# Altium footprint library SMA-TH_HL-SMA-KHD4.PcbLib: 1 footprints
Each footprint in its own frame and in the unit in brackets; x right, y up, seen from the top. Pads: shape width x height; smd on the part's side, far side on the other; paste and mask are expansions set on the pad; w line width, h text height; cw(c..) or ccw(c..) is an arc to the next point about the centre after c.
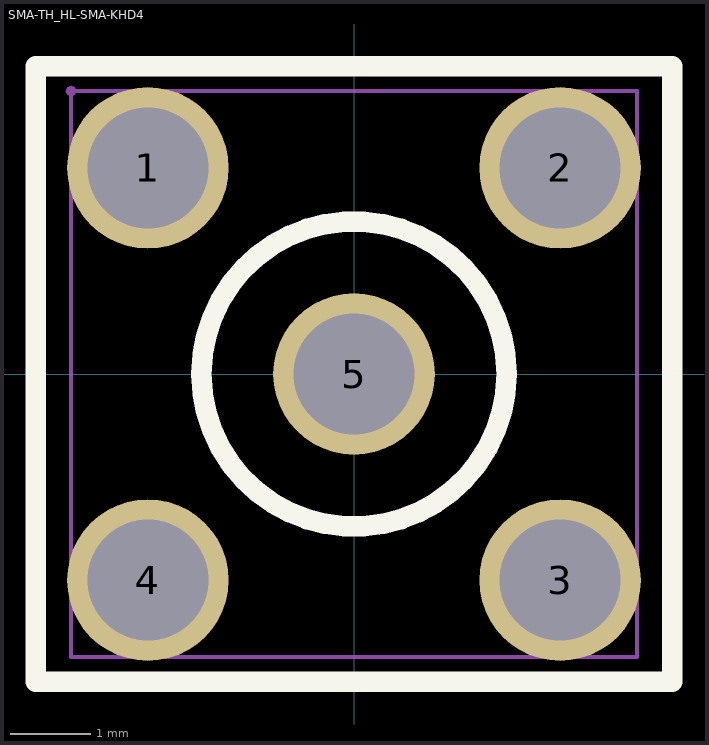
[diagram p0: the footprint, top view; thin cyan lines are the x and y axes]

## SMA-TH_HL-SMA-KHD4 [mm]
pads (5):
  round 2 hole 1.5 paste+0.051: 1(-2.55,2.55) 2(2.55,2.55) 3(2.55,-2.55) 4(-2.55,-2.55) 5(0,0)
Top Overlay:
  circle w0.254: c0,0 r1.888
  lines w0.254: -3.937,-3.81 3.937,-3.81 3.937,3.81 -3.937,3.81 -3.937,-3.81
Mechanical 6:
  lines w0.051: -3.5,-3.5 -3.5,3.5 3.5,3.5 3.5,-3.5 -3.5,-3.5
Mechanical 8:
  region: -3.435,3.5 -3.454,3.454 -3.5,3.435 -3.546,3.454 -3.565,3.5 -3.546,3.546 -3.5,3.565 -3.454,3.546
Mechanical 9:
  region: 0.656,0 0.633,-0.17 0.568,-0.328 0.464,-0.464 0.328,-0.568 0.17,-0.633 0,-0.656 -0.17,-0.633 -0.328,-0.568 -0.464,-0.464 -0.568,-0.328 -0.633,-0.17 -0.656,0 -0.633,0.17 -0.568,0.328 -0.464,0.464 -0.328,0.568 -0.17,0.633 0,0.656 0.17,0.633 0.328,0.568 0.464,0.464 0.568,0.328 0.633,0.17
  region: -1.894,-2.55 -1.917,-2.72 -1.982,-2.878 -2.086,-3.013 -2.222,-3.118 -2.38,-3.183 -2.55,-3.206 -2.72,-3.183 -2.878,-3.118 -3.013,-3.013 -3.118,-2.878 -3.183,-2.72 -3.206,-2.55 -3.183,-2.38 -3.118,-2.222 -3.013,-2.086 -2.878,-1.982 -2.72,-1.917 -2.55,-1.894 -2.38,-1.917 -2.222,-1.982 -2.086,-2.086 -1.982,-2.222 -1.917,-2.38
  region: 3.206,-2.55 3.183,-2.72 3.118,-2.878 3.013,-3.013 2.878,-3.118 2.72,-3.183 2.55,-3.206 2.38,-3.183 2.222,-3.118 2.086,-3.013 1.982,-2.878 1.917,-2.72 1.894,-2.55 1.917,-2.38 1.982,-2.222 2.086,-2.086 2.222,-1.982 2.38,-1.917 2.55,-1.894 2.72,-1.917 2.878,-1.982 3.013,-2.086 3.118,-2.222 3.183,-2.38
  region: 3.206,2.55 3.183,2.38 3.118,2.222 3.013,2.086 2.878,1.982 2.72,1.917 2.55,1.894 2.38,1.917 2.222,1.982 2.086,2.086 1.982,2.222 1.917,2.38 1.894,2.55 1.917,2.72 1.982,2.878 2.086,3.013 2.222,3.118 2.38,3.183 2.55,3.206 2.72,3.183 2.878,3.118 3.013,3.013 3.118,2.878 3.183,2.72
  region: -1.894,2.55 -1.917,2.38 -1.982,2.222 -2.086,2.086 -2.222,1.982 -2.38,1.917 -2.55,1.894 -2.72,1.917 -2.878,1.982 -3.013,2.086 -3.118,2.222 -3.183,2.38 -3.206,2.55 -3.183,2.72 -3.118,2.878 -3.013,3.013 -2.878,3.118 -2.72,3.183 -2.55,3.206 -2.38,3.183 -2.222,3.118 -2.086,3.013 -1.982,2.878 -1.917,2.72